# EAGLE library part IC_PIC18F4X8 (library psas)
PIC18 Core w/FLASH and CAN
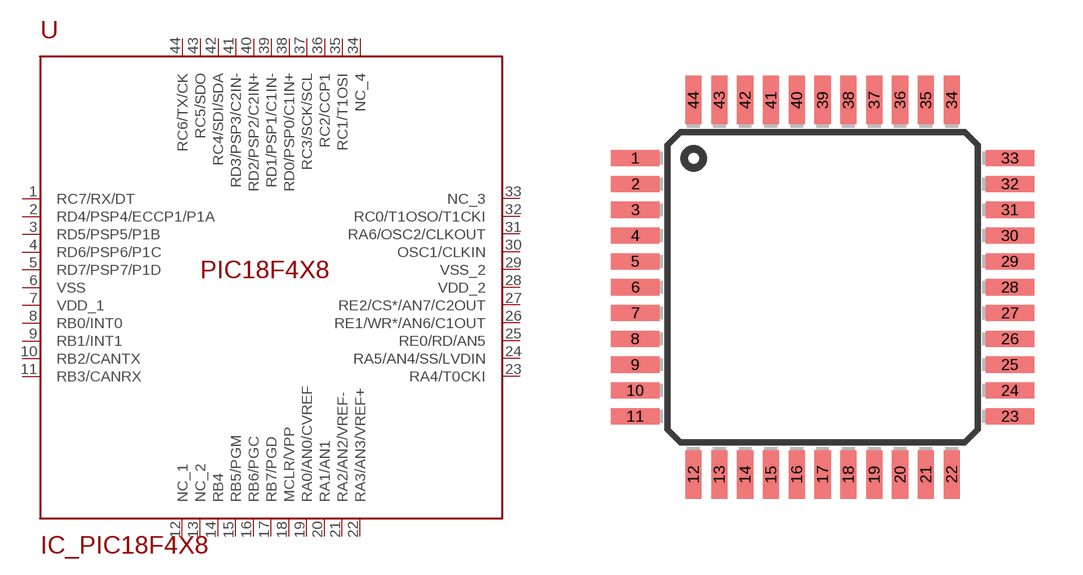
[diagram p5: symbol with the pads of TQFP44; footprint TQFP44]

Designator prefix U

## IC_PIC18F4X8PT  [TQFP44]
1  RC7/RX/DT
2  RD4/PSP4/ECCP1/P1A
3  RD5/PSP5/P1B
4  RD6/PSP6/P1C
5  RD7/PSP7/P1D
6  VSS  pwr
7  VDD_1  pwr
8  RB0/INT0
9  RB1/INT1
10  RB2/CANTX
11  RB3/CANRX
12  NC_1  nc
13  NC_2  nc
14  RB4
15  RB5/PGM
16  RB6/PGC
17  RB7/PGD
18  MCLR/VPP  in
19  RA0/AN0/CVREF
20  RA1/AN1
21  RA2/AN2/VREF-
22  RA3/AN3/VREF+
23  RA4/T0CKI
24  RA5/AN4/SS/LVDIN
25  RE0/RD/AN5
26  RE1/WR*/AN6/C1OUT
27  RE2/CS*/AN7/C2OUT
28  VDD_2  pwr
29  VSS_2  pwr
30  OSC1/CLKIN  in
31  RA6/OSC2/CLKOUT  out
32  RC0/T1OSO/T1CKI
33  NC_3  nc
34  NC_4  nc
35  RC1/T1OSI
36  RC2/CCP1
37  RC3/SCK/SCL
38  RD0/PSP0/C1IN+
39  RD1/PSP1/C1IN-
40  RD2/PSP2/C2IN+
41  RD3/PSP3/C2IN-
42  RC4/SDI/SDA
43  RC5/SDO
44  RC6/TX/CK

## Footprint TQFP44 (pad centres in mm)
smd 1.5 x 0.5: 1 -5.8,4; 2 -5.8,3.2; 3 -5.8,2.4; 4 -5.8,1.6; 5 -5.8,0.8; 6 -5.8,0; 7 -5.8,-0.8; 8 -5.8,-1.6; 9 -5.8,-2.4; 10 -5.8,-3.2; 11 -5.8,-4; 23 5.8,-4; 24 5.8,-3.2; 25 5.8,-2.4; 26 5.8,-1.6; 27 5.8,-0.8; 28 5.8,0; 29 5.8,0.8; 30 5.8,1.6; 31 5.8,2.4; 32 5.8,3.2; 33 5.8,4
smd 0.5 x 1.5: 12 -4,-5.8; 13 -3.2,-5.8; 14 -2.4,-5.8; 15 -1.6,-5.8; 16 -0.8,-5.8; 17 0,-5.8; 18 0.8,-5.8; 19 1.6,-5.8; 20 2.4,-5.8; 21 3.2,-5.8; 22 4,-5.8; 34 4,5.8; 35 3.2,5.8; 36 2.4,5.8; 37 1.6,5.8; 38 0.8,5.8; 39 0,5.8; 40 -0.8,5.8; 41 -1.6,5.8; 42 -2.4,5.8; 43 -3.2,5.8; 44 -4,5.8